# Altium footprint library CONN-SPE-D3W3P36A6GX08_SUBD_puissance.PcbLib: 1 footprints
Each footprint in its own frame and in the unit in brackets; x right, y up, seen from the top. Pads: shape width x height; smd on the part's side, far side on the other; paste and mask are expansions set on the pad; w line width, h text height; cw(c..) or ccw(c..) is an arc to the next point about the centre after c.
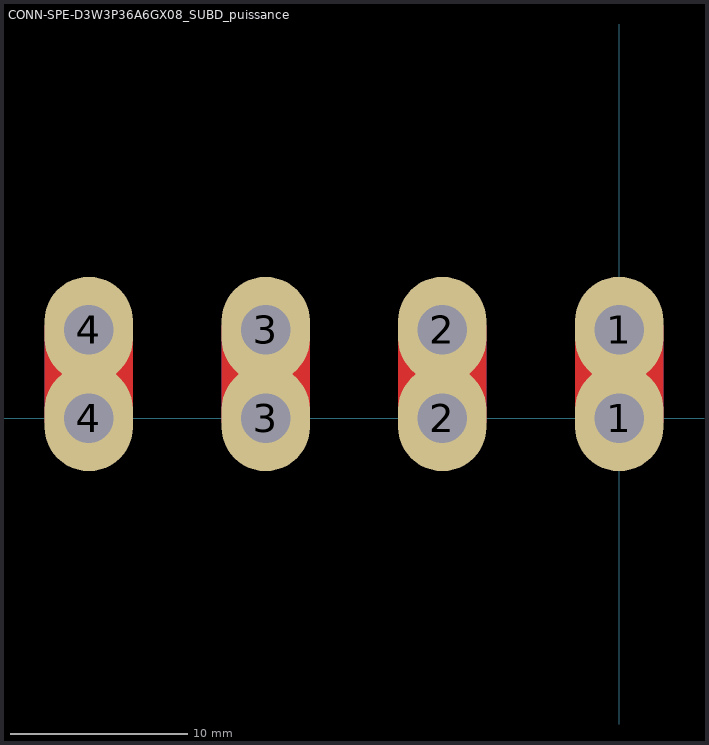
[diagram p0: the footprint, top view; thin cyan lines are the x and y axes]

## CONN-SPE-D3W3P36A6GX08_SUBD_puissance [mm]
pads (8):
  oval 5x6 hole 2.8: 1(0,0) 1(0,5) 2(-10,0) 2(-10,5) 3(-20,0) 3(-20,5) 4(-30,0) 4(-30,5)
Top Layer:
  lines w5: -30,0 -30,5 ; -20,0 -20,5 ; -10,0 -10,5 ; 0,0 0,5
Bottom Layer:
  lines w5: -30,0 -30,5 ; -20,0 -20,5 ; -10,0 -10,5 ; 0,0 0,5